# Altium footprint library ECEN403_TEAM49.PcbLib: 1 footprints
Each footprint in its own frame and in the unit in brackets; x right, y up, seen from the top. Pads: shape width x height; smd on the part's side, far side on the other; paste and mask are expansions set on the pad; w line width, h text height; cw(c..) or ccw(c..) is an arc to the next point about the centre after c.
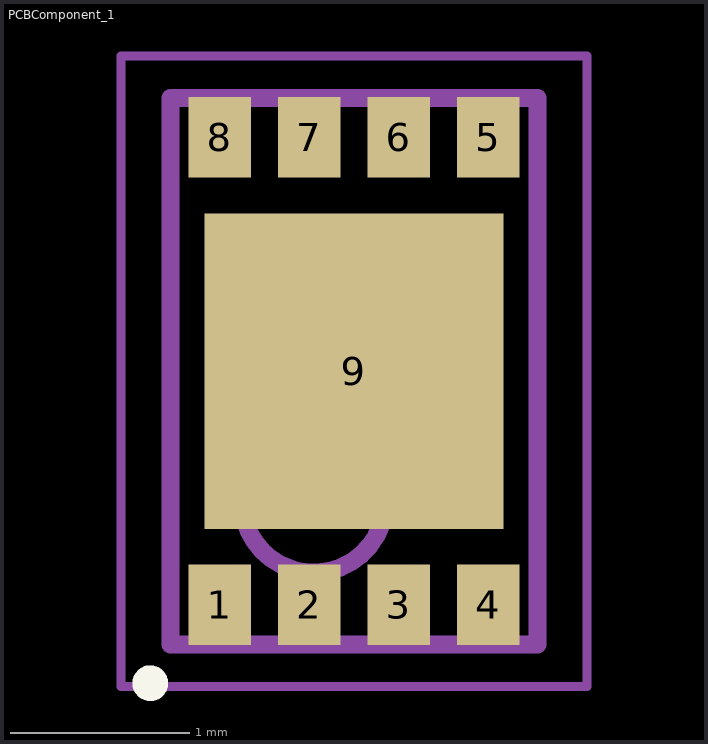
[diagram p0: the footprint, top view; thin cyan lines are the x and y axes]

## PCBComponent_1 [mm]
pads (9):
  rect 0.35x0.45 smd: 1(-1152.101,-1185.004) 2(-1151.601,-1185.004) 3(-1151.101,-1185.004) 4(-1150.601,-1185.004) 5(-1150.601,-1182.394) 6(-1151.101,-1182.394) 7(-1151.601,-1182.394) 8(-1152.101,-1182.394)
  rect 1.67x1.76 smd: 9(-1151.351,-1183.699)
Top Overlay:
  circle w0.1: c-1152.488,-1185.441 r0.05
Top Assembly:
  circle w0.1: c-1151.576,-1184.424 r0.4
  lines w0.1: -1152.376,-1185.224 -1152.376,-1182.174 -1150.326,-1182.174 -1150.326,-1185.224 -1152.376,-1185.224
Top Courtyard:
  lines w0.05: -1152.651,-1185.459 -1152.651,-1181.939 -1150.051,-1181.939 -1150.051,-1185.459 -1152.651,-1185.459
  lines w0.1: -1151.851,-1183.699 -1150.851,-1183.699 ; -1151.351,-1184.199 -1151.351,-1183.199
3D body: height 0.75, standoff 0, extent -1152.376,-1185.224 -1150.326,-1182.174